# EAGLE library part WISP_HEADER (library robot_pcb2)
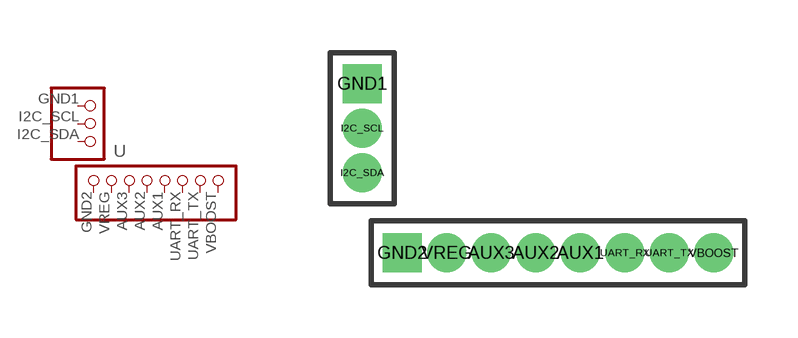
[diagram p2: symbol with the pads of PINHEAD_WISP3X8-1.27MM; footprint PINHEAD_WISP3X8-1.27MM]

Designator prefix -

## WISP_HEADER  [PINHEAD_WISP3X8-1.27MM]
AUX1  AUX1  pas
AUX2  AUX2  pas
AUX3  AUX3  pas
GND1  GND1  pas
GND2  GND2  pas
I2C_SCL  I2C_SCL  pas
I2C_SDA  I2C_SDA  pas
UART_RX  UART_RX  pas
UART_TX  UART_TX  pas
VBOOST  VBOOST  pas
VREG  VREG  pas

## Footprint PINHEAD_WISP3X8-1.27MM (pad centres in mm)
drill 0.6: AUX1 2.54,0; AUX2 1.27,0; AUX3 0,0; I2C_SCL -3.683,3.556; I2C_SDA -3.683,2.286; UART_RX 3.81,0; UART_TX 5.08,0; VBOOST 6.35,0; VREG -1.27,0
drill 0.6 square: GND1 -3.683,4.826; GND2 -2.54,0